# EAGLE library part M16 (library work)
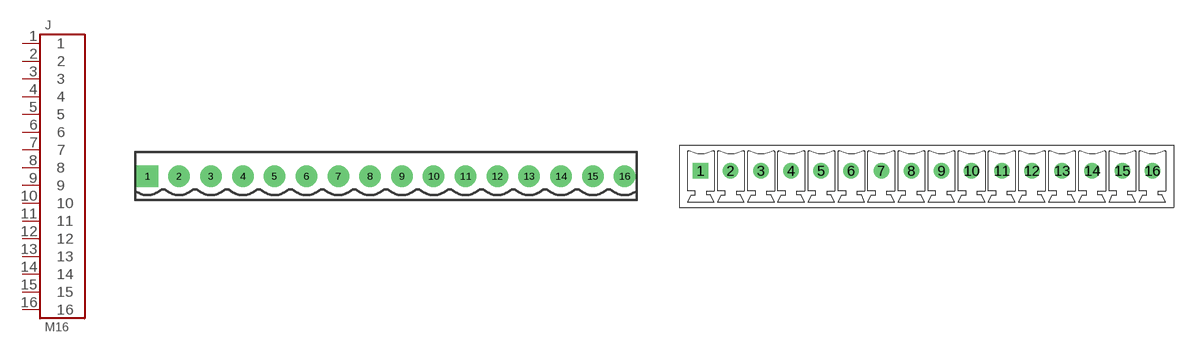
[diagram p11: symbol with the pads of M16; footprints M16, M16-3.5MM]

Designator prefix J

## M16-5MM  [M16]
1  1
2  2
3  3
4  4
5  5
6  6
7  7
8  8
9  9
10  10
11  11
12  12
13  13
14  14
15  15
16  16

## M16-3.5MM  [M16-3.5MM]
Pads as for M16

## Footprint M16 (pad centres in mm)
drill 1.778 pad 3.429 square: 1 -38.1,0
drill 1.778 pad 3.429: 2 -33.02,0; 3 -27.94,0; 4 -22.86,0; 5 -17.78,0; 6 -12.7,0; 7 -7.62,0; 8 -2.54,0; 9 2.54,0; 10 7.62,0; 11 12.7,0; 12 17.78,0; 13 22.86,0; 14 27.94,0; 15 33.02,0; 16 38.1,0

## Footprint M16-3.5MM (pad centres in mm)
drill 1.2 square: 1 -26.25,0
drill 1.2: 2 -22.75,0; 3 -19.25,0; 4 -15.75,0; 5 -12.25,0; 6 -8.75,0; 7 -5.25,0; 8 -1.75,0; 9 1.75,0; 10 5.25,0; 11 8.75,0; 12 12.25,0; 13 15.75,0; 14 19.25,0; 15 22.75,0; 16 26.25,0